# EAGLE library part TON_OO (library pkess_schuetze-relais)
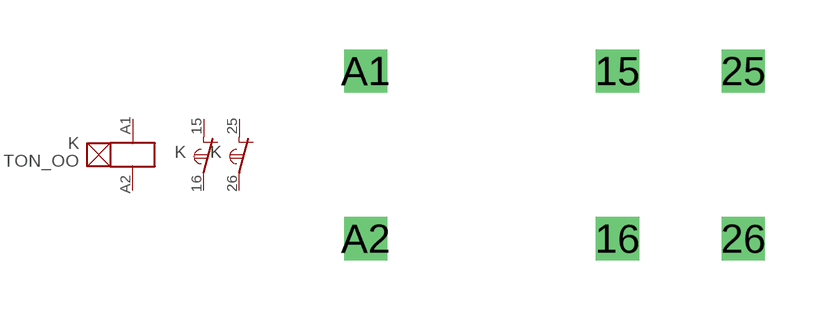
[diagram p3: symbol with the pads of GENERIC_TON_OO; footprint GENERIC_TON_OO]

Designator prefix K; gates SPULE=SPULE_TON G$1=KONTAKT_OEFFNER_TON G$2=KONTAKT_OEFFNER_TON

## TON_OOGENERIC (ZEIT: 5s)  [GENERIC_TON_OO]
15  G$1:5  pas
16  G$1:6  pas
25  G$2:5  pas
26  G$2:6  pas
A1  SPULE:A1  pas
A2  SPULE:A2  pas

## Footprint GENERIC_TON_OO (pad centres in mm)
drill 0.8 square: 15 7.62,2.54; 16 7.62,-2.54; 25 11.43,2.54; 26 11.43,-2.54; A1 0,2.54; A2 0,-2.54